# Altium footprint library MOLEX_503398-1892.PcbLib: 1 footprints
Each footprint in its own frame and in the unit in brackets; x right, y up, seen from the top. Pads: shape width x height; smd on the part's side, far side on the other; paste and mask are expansions set on the pad; w line width, h text height; cw(c..) or ccw(c..) is an arc to the next point about the centre after c.
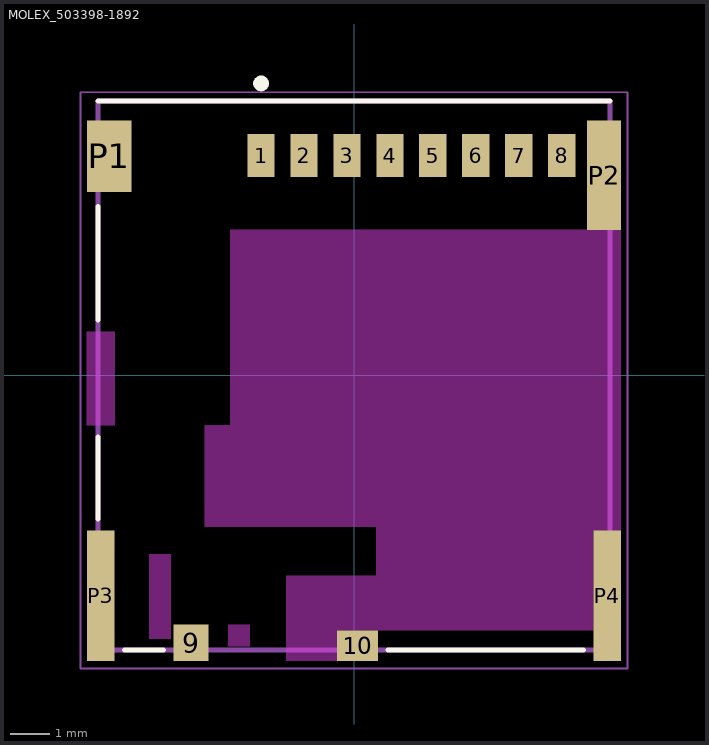
[diagram p0: the footprint, top view; thin cyan lines are the x and y axes]

## MOLEX_503398-1892 [mm]
pads (14):
  rect 0.7x1.1 smd: 1(-2.38,5.625) 2(-1.28,5.625) 3(-0.18,5.625) 4(0.92,5.625) 5(2.02,5.625) 6(3.12,5.625) 7(4.22,5.625) 8(5.32,5.625)
  rect 0.9x0.93 smd: 9(-4.17,-6.84)
  rect 1.05x0.78 smd: 10(0.095,-6.915)
  rect 1.14x1.83 smd: P1(-6.26,5.61)
  rect 0.86x2.8 smd: P2(6.4,5.125)
  rect 0.7x3.33 smd: P3(-6.48,-5.64) P4(6.48,-5.64)
Top Layer keep-out:
  region: -6.13,-1.276 -6.836,-1.276 -6.836,1.125 -6.13,1.125
  region: -4.685,-6.738 -5.245,-6.738 -5.245,-4.575 -4.685,-4.575
  region: -2.67,-6.93 -3.223,-6.93 -3.223,-6.375 -2.67,-6.375
  region: 6.83,-3.975 6.13,-3.975 6.13,-6.525 -0.43,-6.525 -0.43,-7.305 -1.73,-7.305 -1.73,-5.125 0.57,-5.125 0.57,-3.875 -3.82,-3.875 -3.82,-1.275 -3.17,-1.275 -3.17,3.725 6.83,3.725
Top Overlay:
  circle w0.2: c-2.38,7.475 r0.1
  lines w0.127: -6.55,-3.675 -6.55,-1.575 ; -6.55,1.425 -6.55,4.325 ; -6.55,7.025 6.55,7.025 ; -5.876,-7.025 -4.874,-7.025 ; 0.874,-7.025 5.876,-7.025
Mechanical 13:
  circle w0.2: c-2.38,5.775 r0.1
  lines w0.127: -6.55,-7.025 -6.55,7.025 6.55,7.025 6.55,-7.025 -6.55,-7.025
Mechanical 15:
  lines w0.05: -7,-7.5 -7,7.25 7,7.25 7,-7.5 -7,-7.5
3D body "step_temp.STEP": height 1.4, standoff 0, extent -6.55,-7.025 6.55,7.045